# EAGLE library part EE310_RCTANK_PROTOA_DRV8833RTYR (library pwmCatMoto)
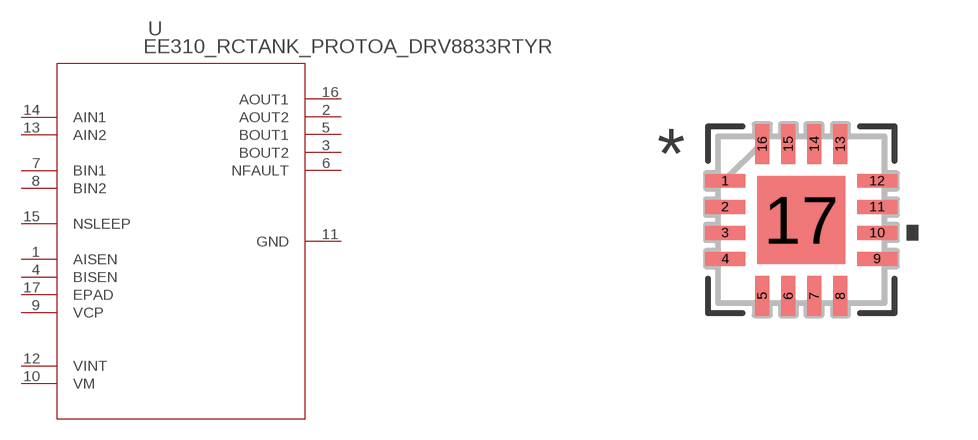
[diagram p2: symbol with the pads of EE310_RCTANK_PROTOA_RTY16; footprint EE310_RCTANK_PROTOA_RTY16]

Designator prefix U

## EE310_RCTANK_PROTOA_DRV8833RTYR (MANUFACTURER_PART_NUMBER: DRV8833RTYR; VENDOR: Texas Instruments)  [EE310_RCTANK_PROTOA_RTY16]
1  AISEN
2  AOUT2  out
3  BOUT2  out
4  BISEN
5  BOUT1  out
6  NFAULT  out
7  BIN1  in
8  BIN2  in
9  VCP
10  VM  pwr
11  GND  pwr
12  VINT  pwr
13  AIN2  in
14  AIN1  in
15  NSLEEP  in
16  AOUT1  out
17  EPAD  pas

## Footprint EE310_RCTANK_PROTOA_RTY16 (pad centres in mm)
smd 1 x 0.35: 1 -1.9,0.975; 2 -1.9,0.325; 3 -1.9,-0.325; 4 -1.9,-0.975; 9 1.9,-0.975; 10 1.9,-0.325; 11 1.9,0.325; 12 1.9,0.975
smd 0.35 x 1: 5 -0.975,-1.9; 6 -0.325,-1.9; 7 0.325,-1.9; 8 0.975,-1.9; 13 0.975,1.9; 14 0.325,1.9; 15 -0.325,1.9; 16 -0.975,1.9
smd 2.2 x 2.2: 17 0,0